# EAGLE library part SKY13335-381LF (library skyworks)
RF SWITCH SPDT 0.1 - 6.0 GHz GaAs
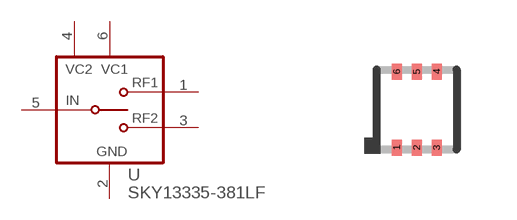
[diagram p3: symbol with the pads of MPLD06; footprint MPLD06]

Designator prefix U; gates G$1=SKY13335-381LF_SPDT G$2=SKY13335-381LF_CTRL

## SKY13335-381LF  [MPLD06]
1  G$1:RF1
2  G$2:GND  pwr
3  G$1:RF2
4  G$2:VC2  in
5  G$1:IN
6  G$2:VC1  in

## Footprint MPLD06 (pad centres in mm)
MPLD-06
smd 0.25 x 0.4: 1 -0.5,-0.95; 2 0,-0.95; 3 0.5,-0.95; 4 0.5,0.95; 5 0,0.95; 6 -0.5,0.95